# EAGLE library part C8051F350 (library micro-silabs)
50 MIPS, 8 kB Flash, 24-Bit ADC MCU
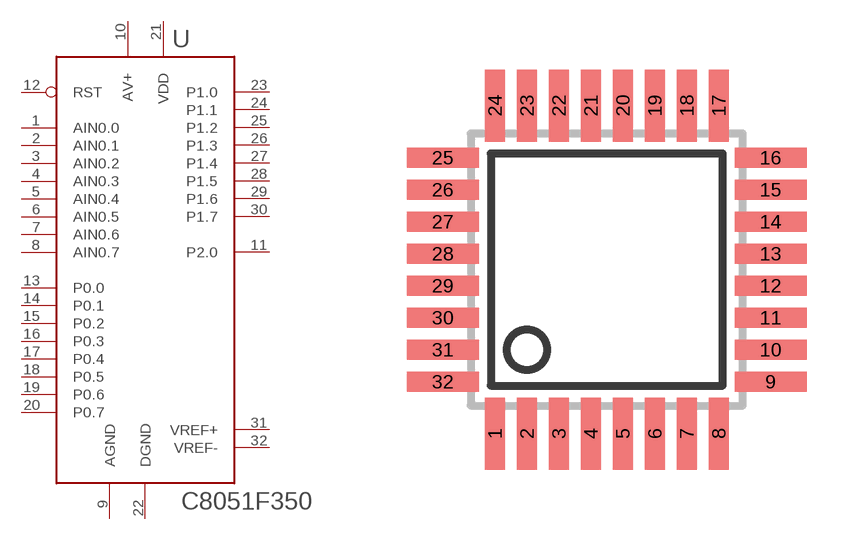
[diagram p0: symbol with the pads of LQFP32; footprint LQFP32]

Designator prefix -

## C8051F350  [LQFP32]
1  AIN0.0  in
2  AIN0.1  in
3  AIN0.2  in
4  AIN0.3  in
5  AIN0.4  in
6  AIN0.5  in
7  AIN0.6  in
8  AIN0.7  in
9  AGND  pwr
10  AV+  pwr
11  P2.0
12  RST
13  P0.0
14  P0.1
15  P0.2
16  P0.3
17  P0.4
18  P0.5
19  P0.6
20  P0.7
21  VDD  pwr
22  DGND  pwr
23  P1.0
24  P1.1
25  P1.2
26  P1.3
27  P1.4
28  P1.5
29  P1.6
30  P1.7
31  VREF+
32  VREF-

## Footprint LQFP32 (pad centres in mm)
Cygnal LQFP32
smd 0.5 x 1.8: 1 -2.8,-4.1; 2 -2,-4.1; 3 -1.2,-4.1; 4 -0.4,-4.1; 5 0.4,-4.1; 6 1.2,-4.1; 7 2,-4.1; 8 2.8,-4.1; 17 2.8,4.1; 18 2,4.1; 19 1.2,4.1; 20 0.4,4.1; 21 -0.4,4.1; 22 -1.2,4.1; 23 -2,4.1; 24 -2.8,4.1
smd 1.8 x 0.5: 9 4.1,-2.8; 10 4.1,-2; 11 4.1,-1.2; 12 4.1,-0.4; 13 4.1,0.4; 14 4.1,1.2; 15 4.1,2; 16 4.1,2.8; 25 -4.1,2.8; 26 -4.1,2; 27 -4.1,1.2; 28 -4.1,0.4; 29 -4.1,-0.4; 30 -4.1,-1.2; 31 -4.1,-2; 32 -4.1,-2.8